# Altium schematic symbol library MCU_Microchip_SAMD.SchLib: 87 symbols (part 2 of 2)
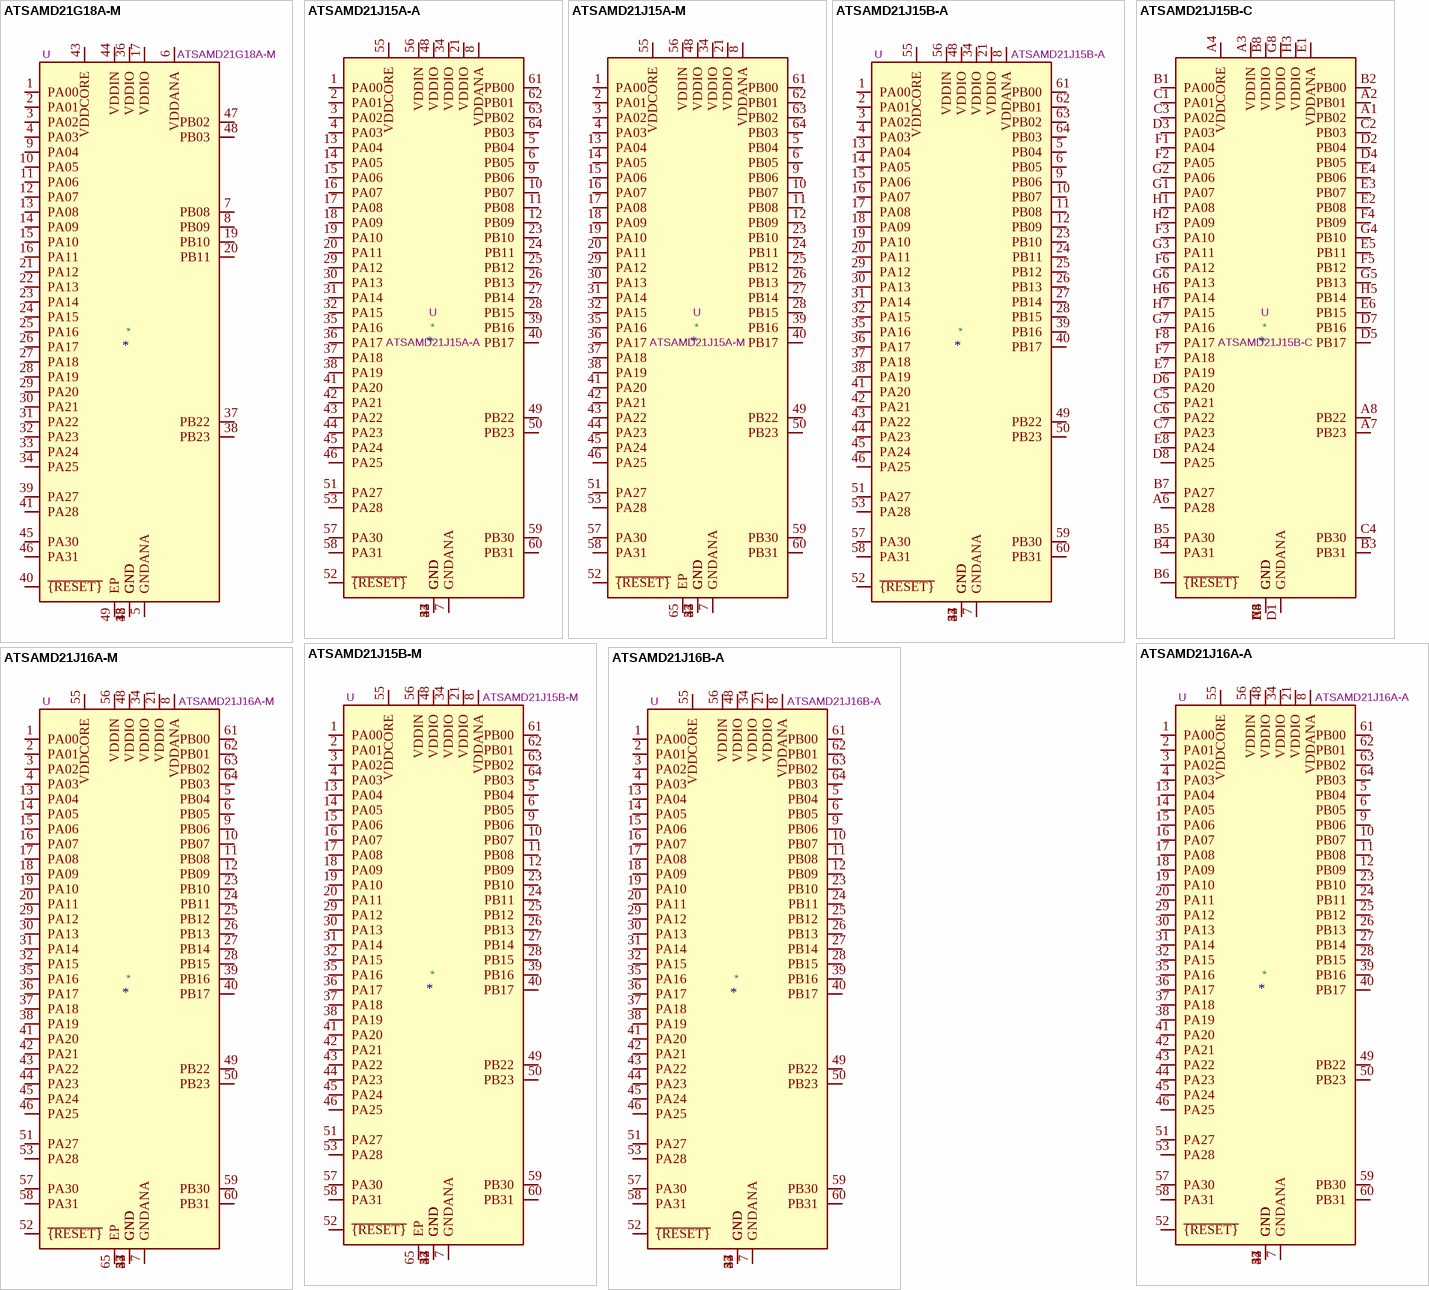
[diagram p8: symbols ATSAMD21G18A-M to ATSAMD21J16B-A]

## ATSAMD21J16A-M
designator *  value ATSAMD21J16A-M  Reference: U
SAM D21 Microchip SMART ARM-based Flash MCU, 48Mhz, 64K Flash, 8K SRAM, QFN-64; ki_keywords: 32-bit ARM Cortex-M0+ MCU Microcontroller; ki_fp_filters: QFN*9x9mm*P0.5mm*; Footprint: Package_DFN_QFN:QFN-64-1EP_9x9mm_P0.5mm_EP4.7x4.7mm; Datasheet: http://ww1.microchip.com/downloads/en/DeviceDoc/SAM_D21_DA1_Family_Data%20Sheet_DS40001882E.pdf; Description_: SAM D21 Microchip SMART ARM-based Flash MCU, 48Mhz, 64K Flash, 8K SRAM, QFN-64
pins: 1 PA00, 2 PA01, 3 PA02, 4 PA03, 5 PB04, 6 PB05, 7 GNDANA, 8 VDDANA, 9 PB06, 10 PB07, 11 PB08, 12 PB09, 13 PA04, 14 PA05, 15 PA06, 16 PA07, 17 PA08, 18 PA09, 19 PA10, 20 PA11, 21 VDDIO, 22 GND, 23 PB10, 24 PB11, 25 PB12, 26 PB13, 27 PB14, 28 PB15, 29 PA12, 30 PA13, 31 PA14, 32 PA15, 33 GND, 34 VDDIO, 35 PA16, 36 PA17, 37 PA18, 38 PA19, 39 PB16, 40 PB17, 41 PA20, 42 PA21, 43 PA22, 44 PA23, 45 PA24, 46 PA25, 47 GND, 48 VDDIO, 49 PB22, 50 PB23, 51 PA27, 52 ~{{RESET}}, 53 PA28, 54 GND, 55 VDDCORE, 56 VDDIN, 57 PA30, 58 PA31, 59 PB30, 60 PB31, 61 PB00, 62 PB01, 63 PB02, 64 PB03, 65 EP

## ATSAMD21J16B-A
designator *  value ATSAMD21J16B-A  Reference: U
SAM D21 Microchip SMART ARM-based Flash MCU, 48Mhz, 64K Flash w/ 2K RWW, 8K SRAM, TQFP-64; ki_keywords: 32-bit ARM Cortex-M0+ MCU Microcontroller; ki_fp_filters: TQFP*10x10mm*P0.5mm*; Footprint: Package_QFP:TQFP-64_10x10mm_P0.5mm; Datasheet: http://ww1.microchip.com/downloads/en/DeviceDoc/SAM_D21_DA1_Family_Data%20Sheet_DS40001882E.pdf; Description_: SAM D21 Microchip SMART ARM-based Flash MCU, 48Mhz, 64K Flash w/ 2K RWW, 8K SRAM, TQFP-64
pins: 1 PA00, 2 PA01, 3 PA02, 4 PA03, 5 PB04, 6 PB05, 7 GNDANA, 8 VDDANA, 9 PB06, 10 PB07, 11 PB08, 12 PB09, 13 PA04, 14 PA05, 15 PA06, 16 PA07, 17 PA08, 18 PA09, 19 PA10, 20 PA11, 21 VDDIO, 22 GND, 23 PB10, 24 PB11, 25 PB12, 26 PB13, 27 PB14, 28 PB15, 29 PA12, 30 PA13, 31 PA14, 32 PA15, 33 GND, 34 VDDIO, 35 PA16, 36 PA17, 37 PA18, 38 PA19, 39 PB16, 40 PB17, 41 PA20, 42 PA21, 43 PA22, 44 PA23, 45 PA24, 46 PA25, 47 GND, 48 VDDIO, 49 PB22, 50 PB23, 51 PA27, 52 ~{{RESET}}, 53 PA28, 54 GND, 55 VDDCORE, 56 VDDIN, 57 PA30, 58 PA31, 59 PB30, 60 PB31, 61 PB00, 62 PB01, 63 PB02, 64 PB03

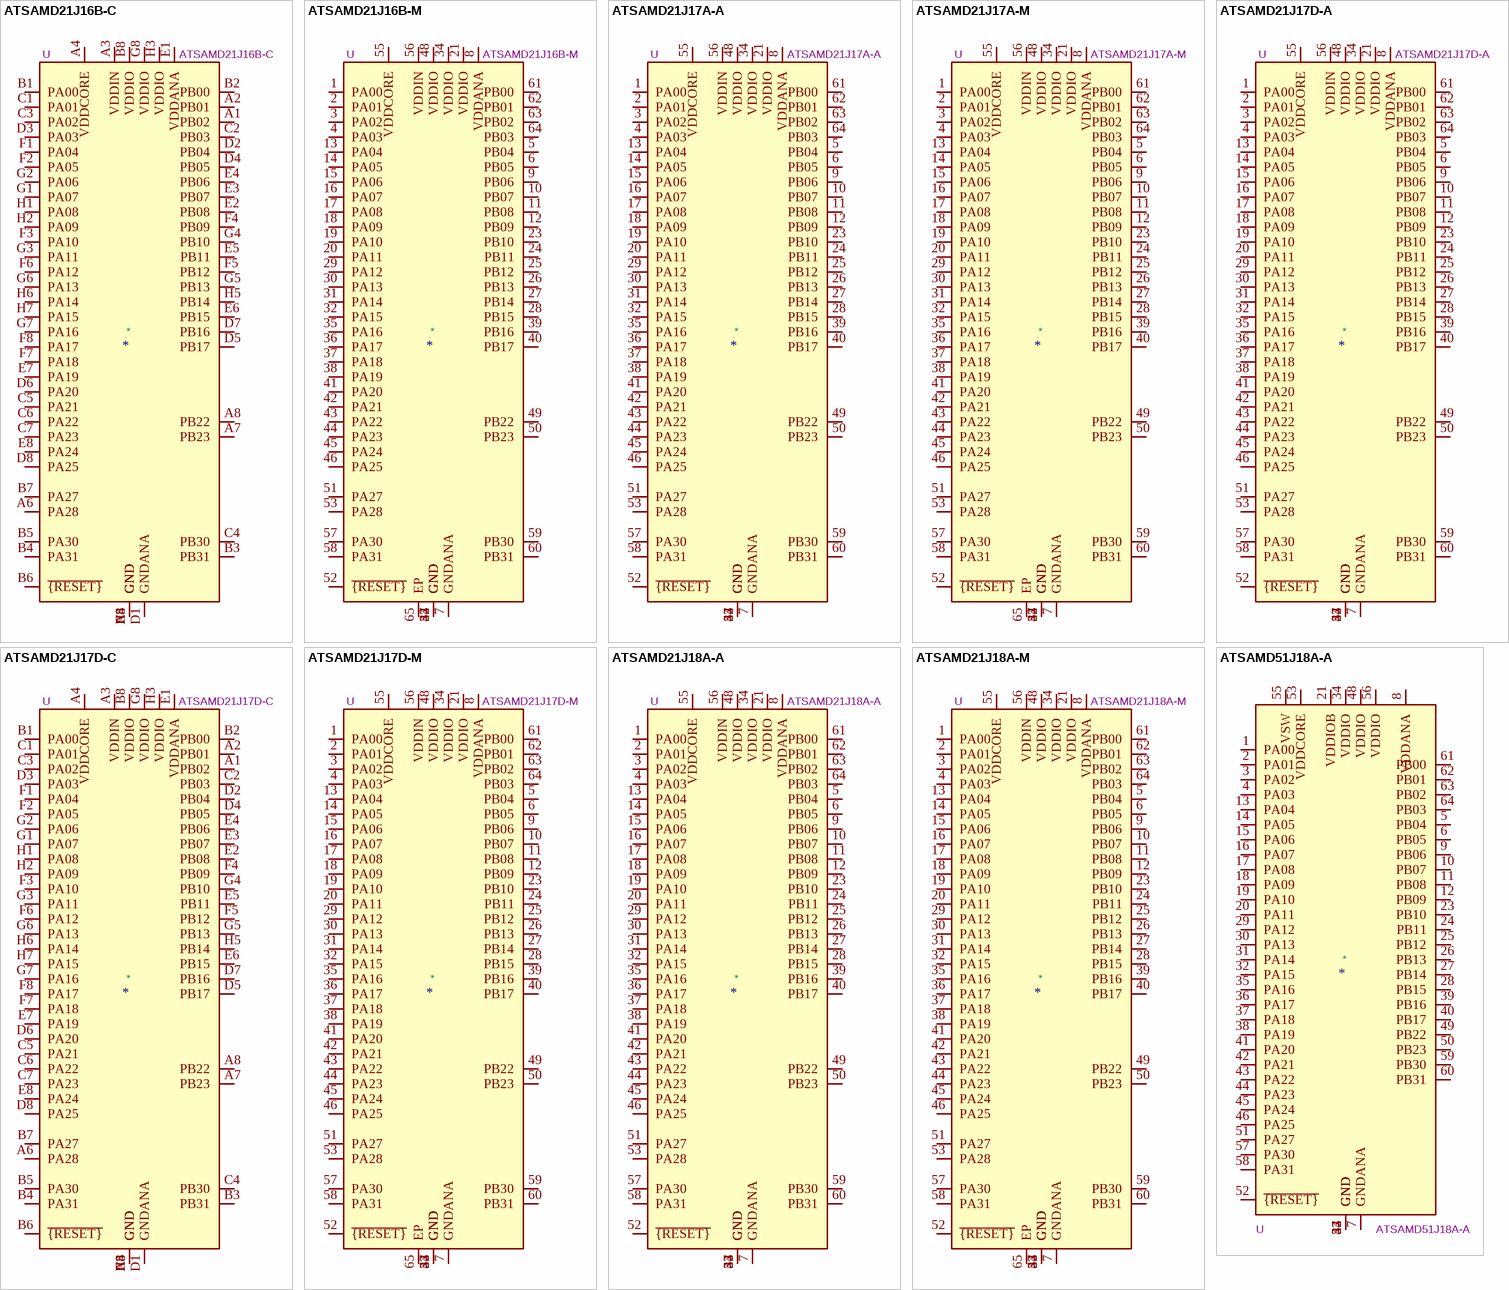
[diagram p5: symbols ATSAMD21J16B-C to ATSAMD51J18A-A]

## ATSAMD21J16B-C
designator *  value ATSAMD21J16B-C  Reference: U
SAM D21 Microchip SMART ARM-based Flash MCU, 48Mhz, 64K Flash w/ 2K RWW, 8K SRAM, UFBGA-64; ki_keywords: 32-bit ARM Cortex-M0+ MCU Microcontroller; ki_fp_filters: UFBGA*5x5mm*Layout8x8*P0.5mm*; Footprint: Package_BGA:UFBGA-64_5x5mm_Layout8x8_P0.5mm; Datasheet: http://ww1.microchip.com/downloads/en/DeviceDoc/SAM_D21_DA1_Family_Data%20Sheet_DS40001882E.pdf; Description_: SAM D21 Microchip SMART ARM-based Flash MCU, 48Mhz, 64K Flash w/ 2K RWW, 8K SRAM, UFBGA-64
pins: A1 PB02, A2 PB01, A3 VDDIN, A4 VDDCORE, A5 GND, A6 PA28, A7 PB23, A8 PB22, B1 PA00, B2 PB00, B3 PB31, B4 PA31, B5 PA30, B6 ~{{RESET}}, B7 PA27, B8 VDDIO, C1 PA01, C2 PB03, C3 PA02, C4 PB30, C5 PA21, C6 PA22, C7 PA23, C8 GND, D1 GNDANA, D2 PB04, D3 PA03, D4 PB05, D5 PB17, D6 PA20, D7 PB16, D8 PA25, E1 VDDANA, E2 PB08, E3 PB07, E4 PB06, E5 PB11, E6 PB15, E7 PA19, E8 PA24, F1 PA04, F2 PA05, F3 PA10, F4 PB09, F5 PB12, F6 PA12, F7 PA18, F8 PA17, G1 PA07, G2 PA06, G3 PA11, G4 PB10, G5 PB13, G6 PA13, G7 PA16, G8 VDDIO, H1 PA08, H2 PA09, H3 VDDIO, H4 GND, H5 PB14, H6 PA14, H7 PA15, H8 GND

## ATSAMD21J16B-M
designator *  value ATSAMD21J16B-M  Reference: U
SAM D21 Microchip SMART ARM-based Flash MCU, 48Mhz, 64K Flash w/ 2K RWW, 8K SRAM, QFN-64; ki_keywords: 32-bit ARM Cortex-M0+ MCU Microcontroller; ki_fp_filters: QFN*9x9mm*P0.5mm*; Footprint: Package_DFN_QFN:QFN-64-1EP_9x9mm_P0.5mm_EP4.7x4.7mm; Datasheet: http://ww1.microchip.com/downloads/en/DeviceDoc/SAM_D21_DA1_Family_Data%20Sheet_DS40001882E.pdf; Description_: SAM D21 Microchip SMART ARM-based Flash MCU, 48Mhz, 64K Flash w/ 2K RWW, 8K SRAM, QFN-64
pins: 1 PA00, 2 PA01, 3 PA02, 4 PA03, 5 PB04, 6 PB05, 7 GNDANA, 8 VDDANA, 9 PB06, 10 PB07, 11 PB08, 12 PB09, 13 PA04, 14 PA05, 15 PA06, 16 PA07, 17 PA08, 18 PA09, 19 PA10, 20 PA11, 21 VDDIO, 22 GND, 23 PB10, 24 PB11, 25 PB12, 26 PB13, 27 PB14, 28 PB15, 29 PA12, 30 PA13, 31 PA14, 32 PA15, 33 GND, 34 VDDIO, 35 PA16, 36 PA17, 37 PA18, 38 PA19, 39 PB16, 40 PB17, 41 PA20, 42 PA21, 43 PA22, 44 PA23, 45 PA24, 46 PA25, 47 GND, 48 VDDIO, 49 PB22, 50 PB23, 51 PA27, 52 ~{{RESET}}, 53 PA28, 54 GND, 55 VDDCORE, 56 VDDIN, 57 PA30, 58 PA31, 59 PB30, 60 PB31, 61 PB00, 62 PB01, 63 PB02, 64 PB03, 65 EP

## ATSAMD21J17A-A
designator *  value ATSAMD21J17A-A  Reference: U
SAM D21 Microchip SMART ARM-based Flash MCU, 48Mhz, 128K Flash, 16K SRAM, TQFP-64; ki_keywords: 32-bit ARM Cortex-M0+ MCU Microcontroller; ki_fp_filters: TQFP*10x10mm*P0.5mm*; Footprint: Package_QFP:TQFP-64_10x10mm_P0.5mm; Datasheet: http://ww1.microchip.com/downloads/en/DeviceDoc/SAM_D21_DA1_Family_Data%20Sheet_DS40001882E.pdf; Description_: SAM D21 Microchip SMART ARM-based Flash MCU, 48Mhz, 128K Flash, 16K SRAM, TQFP-64
pins: 1 PA00, 2 PA01, 3 PA02, 4 PA03, 5 PB04, 6 PB05, 7 GNDANA, 8 VDDANA, 9 PB06, 10 PB07, 11 PB08, 12 PB09, 13 PA04, 14 PA05, 15 PA06, 16 PA07, 17 PA08, 18 PA09, 19 PA10, 20 PA11, 21 VDDIO, 22 GND, 23 PB10, 24 PB11, 25 PB12, 26 PB13, 27 PB14, 28 PB15, 29 PA12, 30 PA13, 31 PA14, 32 PA15, 33 GND, 34 VDDIO, 35 PA16, 36 PA17, 37 PA18, 38 PA19, 39 PB16, 40 PB17, 41 PA20, 42 PA21, 43 PA22, 44 PA23, 45 PA24, 46 PA25, 47 GND, 48 VDDIO, 49 PB22, 50 PB23, 51 PA27, 52 ~{{RESET}}, 53 PA28, 54 GND, 55 VDDCORE, 56 VDDIN, 57 PA30, 58 PA31, 59 PB30, 60 PB31, 61 PB00, 62 PB01, 63 PB02, 64 PB03

## ATSAMD21J17A-M
designator *  value ATSAMD21J17A-M  Reference: U
SAM D21 Microchip SMART ARM-based Flash MCU, 48Mhz, 128K Flash, 16K SRAM, QFN-64; ki_keywords: 32-bit ARM Cortex-M0+ MCU Microcontroller; ki_fp_filters: QFN*9x9mm*P0.5mm*; Footprint: Package_DFN_QFN:QFN-64-1EP_9x9mm_P0.5mm_EP4.7x4.7mm; Datasheet: http://ww1.microchip.com/downloads/en/DeviceDoc/SAM_D21_DA1_Family_Data%20Sheet_DS40001882E.pdf; Description_: SAM D21 Microchip SMART ARM-based Flash MCU, 48Mhz, 128K Flash, 16K SRAM, QFN-64
pins: 1 PA00, 2 PA01, 3 PA02, 4 PA03, 5 PB04, 6 PB05, 7 GNDANA, 8 VDDANA, 9 PB06, 10 PB07, 11 PB08, 12 PB09, 13 PA04, 14 PA05, 15 PA06, 16 PA07, 17 PA08, 18 PA09, 19 PA10, 20 PA11, 21 VDDIO, 22 GND, 23 PB10, 24 PB11, 25 PB12, 26 PB13, 27 PB14, 28 PB15, 29 PA12, 30 PA13, 31 PA14, 32 PA15, 33 GND, 34 VDDIO, 35 PA16, 36 PA17, 37 PA18, 38 PA19, 39 PB16, 40 PB17, 41 PA20, 42 PA21, 43 PA22, 44 PA23, 45 PA24, 46 PA25, 47 GND, 48 VDDIO, 49 PB22, 50 PB23, 51 PA27, 52 ~{{RESET}}, 53 PA28, 54 GND, 55 VDDCORE, 56 VDDIN, 57 PA30, 58 PA31, 59 PB30, 60 PB31, 61 PB00, 62 PB01, 63 PB02, 64 PB03, 65 EP

## ATSAMD21J17D-A
designator *  value ATSAMD21J17D-A  Reference: U
SAM D21 Microchip SMART ARM-based Flash MCU, 48Mhz, 128K Flash w/ 4K RWW, 16K SRAM, TQFP-64; ki_keywords: 32-bit ARM Cortex-M0+ MCU Microcontroller; ki_fp_filters: TQFP*10x10mm*P0.5mm*; Footprint: Package_QFP:TQFP-64_10x10mm_P0.5mm; Datasheet: http://ww1.microchip.com/downloads/en/DeviceDoc/SAM_D21_DA1_Family_Data%20Sheet_DS40001882E.pdf; Description_: SAM D21 Microchip SMART ARM-based Flash MCU, 48Mhz, 128K Flash w/ 4K RWW, 16K SRAM, TQFP-64
pins: 1 PA00, 2 PA01, 3 PA02, 4 PA03, 5 PB04, 6 PB05, 7 GNDANA, 8 VDDANA, 9 PB06, 10 PB07, 11 PB08, 12 PB09, 13 PA04, 14 PA05, 15 PA06, 16 PA07, 17 PA08, 18 PA09, 19 PA10, 20 PA11, 21 VDDIO, 22 GND, 23 PB10, 24 PB11, 25 PB12, 26 PB13, 27 PB14, 28 PB15, 29 PA12, 30 PA13, 31 PA14, 32 PA15, 33 GND, 34 VDDIO, 35 PA16, 36 PA17, 37 PA18, 38 PA19, 39 PB16, 40 PB17, 41 PA20, 42 PA21, 43 PA22, 44 PA23, 45 PA24, 46 PA25, 47 GND, 48 VDDIO, 49 PB22, 50 PB23, 51 PA27, 52 ~{{RESET}}, 53 PA28, 54 GND, 55 VDDCORE, 56 VDDIN, 57 PA30, 58 PA31, 59 PB30, 60 PB31, 61 PB00, 62 PB01, 63 PB02, 64 PB03

## ATSAMD21J17D-C
designator *  value ATSAMD21J17D-C  Reference: U
SAM D21 Microchip SMART ARM-based Flash MCU, 48Mhz, 128K Flash w/ 4K RWW, 16K SRAM, UFBGA-64; ki_keywords: 32-bit ARM Cortex-M0+ MCU Microcontroller; ki_fp_filters: UFBGA*5x5mm*Layout8x8*P0.5mm*; Footprint: Package_BGA:UFBGA-64_5x5mm_Layout8x8_P0.5mm; Datasheet: http://ww1.microchip.com/downloads/en/DeviceDoc/SAM_D21_DA1_Family_Data%20Sheet_DS40001882E.pdf; Description_: SAM D21 Microchip SMART ARM-based Flash MCU, 48Mhz, 128K Flash w/ 4K RWW, 16K SRAM, UFBGA-64
pins: A1 PB02, A2 PB01, A3 VDDIN, A4 VDDCORE, A5 GND, A6 PA28, A7 PB23, A8 PB22, B1 PA00, B2 PB00, B3 PB31, B4 PA31, B5 PA30, B6 ~{{RESET}}, B7 PA27, B8 VDDIO, C1 PA01, C2 PB03, C3 PA02, C4 PB30, C5 PA21, C6 PA22, C7 PA23, C8 GND, D1 GNDANA, D2 PB04, D3 PA03, D4 PB05, D5 PB17, D6 PA20, D7 PB16, D8 PA25, E1 VDDANA, E2 PB08, E3 PB07, E4 PB06, E5 PB11, E6 PB15, E7 PA19, E8 PA24, F1 PA04, F2 PA05, F3 PA10, F4 PB09, F5 PB12, F6 PA12, F7 PA18, F8 PA17, G1 PA07, G2 PA06, G3 PA11, G4 PB10, G5 PB13, G6 PA13, G7 PA16, G8 VDDIO, H1 PA08, H2 PA09, H3 VDDIO, H4 GND, H5 PB14, H6 PA14, H7 PA15, H8 GND

## ATSAMD21J17D-M
designator *  value ATSAMD21J17D-M  Reference: U
SAM D21 Microchip SMART ARM-based Flash MCU, 48Mhz, 128K Flash w/ 4K RWW, 16K SRAM, QFN-64; ki_keywords: 32-bit ARM Cortex-M0+ MCU Microcontroller; ki_fp_filters: QFN*9x9mm*P0.5mm*; Footprint: Package_DFN_QFN:QFN-64-1EP_9x9mm_P0.5mm_EP4.7x4.7mm; Datasheet: http://ww1.microchip.com/downloads/en/DeviceDoc/SAM_D21_DA1_Family_Data%20Sheet_DS40001882E.pdf; Description_: SAM D21 Microchip SMART ARM-based Flash MCU, 48Mhz, 128K Flash w/ 4K RWW, 16K SRAM, QFN-64
pins: 1 PA00, 2 PA01, 3 PA02, 4 PA03, 5 PB04, 6 PB05, 7 GNDANA, 8 VDDANA, 9 PB06, 10 PB07, 11 PB08, 12 PB09, 13 PA04, 14 PA05, 15 PA06, 16 PA07, 17 PA08, 18 PA09, 19 PA10, 20 PA11, 21 VDDIO, 22 GND, 23 PB10, 24 PB11, 25 PB12, 26 PB13, 27 PB14, 28 PB15, 29 PA12, 30 PA13, 31 PA14, 32 PA15, 33 GND, 34 VDDIO, 35 PA16, 36 PA17, 37 PA18, 38 PA19, 39 PB16, 40 PB17, 41 PA20, 42 PA21, 43 PA22, 44 PA23, 45 PA24, 46 PA25, 47 GND, 48 VDDIO, 49 PB22, 50 PB23, 51 PA27, 52 ~{{RESET}}, 53 PA28, 54 GND, 55 VDDCORE, 56 VDDIN, 57 PA30, 58 PA31, 59 PB30, 60 PB31, 61 PB00, 62 PB01, 63 PB02, 64 PB03, 65 EP

## ATSAMD21J18A-A
designator *  value ATSAMD21J18A-A  Reference: U
SAM D21 Microchip SMART ARM-based Flash MCU, 48Mhz, 256K Flash, 32K SRAM, TQFP-64; ki_keywords: 32-bit ARM Cortex-M0+ MCU Microcontroller; ki_fp_filters: TQFP*10x10mm*P0.5mm*; Footprint: Package_QFP:TQFP-64_10x10mm_P0.5mm; Datasheet: http://ww1.microchip.com/downloads/en/DeviceDoc/SAM_D21_DA1_Family_Data%20Sheet_DS40001882E.pdf; Description_: SAM D21 Microchip SMART ARM-based Flash MCU, 48Mhz, 256K Flash, 32K SRAM, TQFP-64
pins: 1 PA00, 2 PA01, 3 PA02, 4 PA03, 5 PB04, 6 PB05, 7 GNDANA, 8 VDDANA, 9 PB06, 10 PB07, 11 PB08, 12 PB09, 13 PA04, 14 PA05, 15 PA06, 16 PA07, 17 PA08, 18 PA09, 19 PA10, 20 PA11, 21 VDDIO, 22 GND, 23 PB10, 24 PB11, 25 PB12, 26 PB13, 27 PB14, 28 PB15, 29 PA12, 30 PA13, 31 PA14, 32 PA15, 33 GND, 34 VDDIO, 35 PA16, 36 PA17, 37 PA18, 38 PA19, 39 PB16, 40 PB17, 41 PA20, 42 PA21, 43 PA22, 44 PA23, 45 PA24, 46 PA25, 47 GND, 48 VDDIO, 49 PB22, 50 PB23, 51 PA27, 52 ~{{RESET}}, 53 PA28, 54 GND, 55 VDDCORE, 56 VDDIN, 57 PA30, 58 PA31, 59 PB30, 60 PB31, 61 PB00, 62 PB01, 63 PB02, 64 PB03

## ATSAMD21J18A-M
designator *  value ATSAMD21J18A-M  Reference: U
SAM D21 Microchip SMART ARM-based Flash MCU, 48Mhz, 256K Flash, 32K SRAM, QFN-64; ki_keywords: 32-bit ARM Cortex-M0+ MCU Microcontroller; ki_fp_filters: QFN*9x9mm*P0.5mm*; Footprint: Package_DFN_QFN:QFN-64-1EP_9x9mm_P0.5mm_EP4.7x4.7mm; Datasheet: http://ww1.microchip.com/downloads/en/DeviceDoc/SAM_D21_DA1_Family_Data%20Sheet_DS40001882E.pdf; Description_: SAM D21 Microchip SMART ARM-based Flash MCU, 48Mhz, 256K Flash, 32K SRAM, QFN-64
pins: 1 PA00, 2 PA01, 3 PA02, 4 PA03, 5 PB04, 6 PB05, 7 GNDANA, 8 VDDANA, 9 PB06, 10 PB07, 11 PB08, 12 PB09, 13 PA04, 14 PA05, 15 PA06, 16 PA07, 17 PA08, 18 PA09, 19 PA10, 20 PA11, 21 VDDIO, 22 GND, 23 PB10, 24 PB11, 25 PB12, 26 PB13, 27 PB14, 28 PB15, 29 PA12, 30 PA13, 31 PA14, 32 PA15, 33 GND, 34 VDDIO, 35 PA16, 36 PA17, 37 PA18, 38 PA19, 39 PB16, 40 PB17, 41 PA20, 42 PA21, 43 PA22, 44 PA23, 45 PA24, 46 PA25, 47 GND, 48 VDDIO, 49 PB22, 50 PB23, 51 PA27, 52 ~{{RESET}}, 53 PA28, 54 GND, 55 VDDCORE, 56 VDDIN, 57 PA30, 58 PA31, 59 PB30, 60 PB31, 61 PB00, 62 PB01, 63 PB02, 64 PB03, 65 EP

## ATSAMD51J18A-A
designator *  value ATSAMD51J18A-A  Reference: U
SAM D51 Microchip SMART ARM Cortex-M4F-based MCU, 256K Flash, 128K SRAM, TQFP-64; ki_keywords: 32-bit ARM Cortex-M4F MCU Microcontroller; ki_fp_filters: TQFP*10x10mm*P0.5mm*; Footprint: Package_QFP:TQFP-64_10x10mm_P0.5mm; Datasheet: http://ww1.microchip.com/downloads/en/DeviceDoc/60001507E.pdf; Description_: SAM D51 Microchip SMART ARM Cortex-M4F-based MCU, 256K Flash, 128K SRAM, TQFP-64
pins: 1 PA00, 2 PA01, 3 PA02, 4 PA03, 5 PB04, 6 PB05, 7 GNDANA, 8 VDDANA, 9 PB06, 10 PB07, 11 PB08, 12 PB09, 13 PA04, 14 PA05, 15 PA06, 16 PA07, 17 PA08, 18 PA09, 19 PA10, 20 PA11, 21 VDDIOB, 22 GND, 23 PB10, 24 PB11, 25 PB12, 26 PB13, 27 PB14, 28 PB15, 29 PA12, 30 PA13, 31 PA14, 32 PA15, 33 GND, 34 VDDIO, 35 PA16, 36 PA17, 37 PA18, 38 PA19, 39 PB16, 40 PB17, 41 PA20, 42 PA21, 43 PA22, 44 PA23, 45 PA24, 46 PA25, 47 GND, 48 VDDIO, 49 PB22, 50 PB23, 51 PA27, 52 ~{{RESET}}, 53 VDDCORE, 54 GND, 55 VSW, 56 VDDIO, 57 PA30, 58 PA31, 59 PB30, 60 PB31, 61 PB00, 62 PB01, 63 PB02, 64 PB03

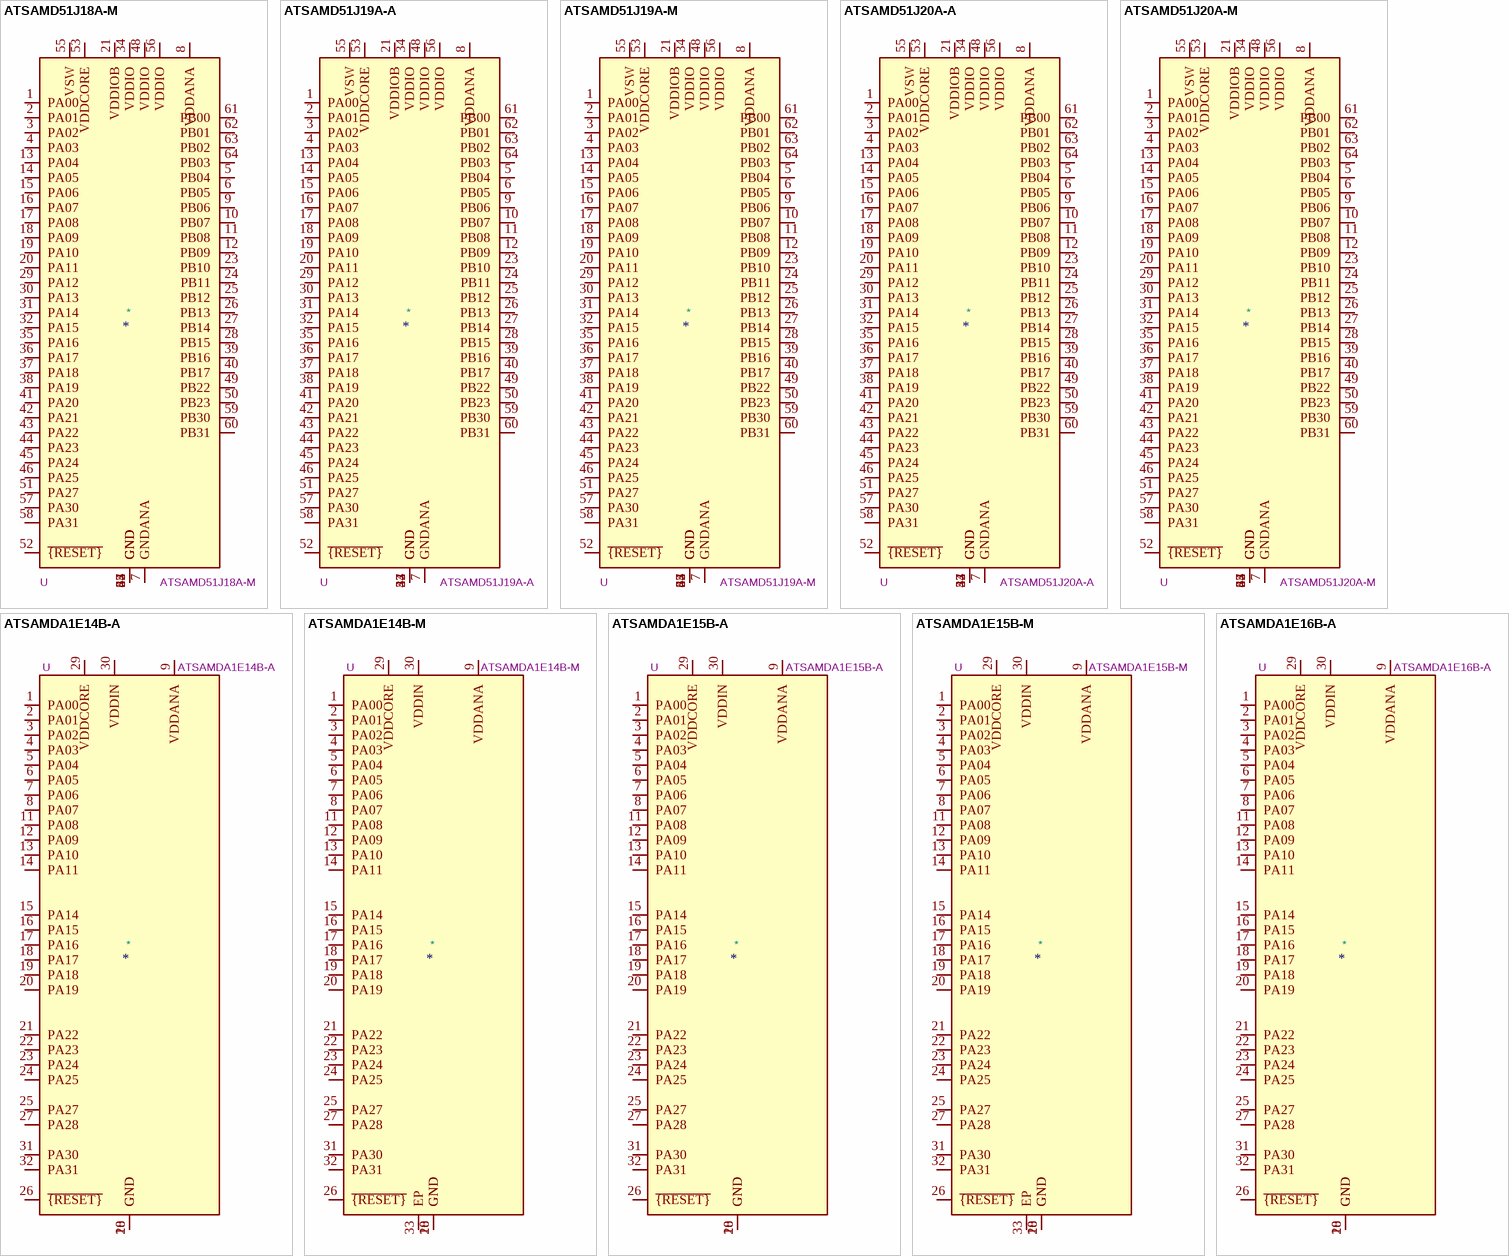
[diagram p6: symbols ATSAMD51J18A-M to ATSAMDA1E16B-A]

## ATSAMD51J18A-M
designator *  value ATSAMD51J18A-M  Reference: U
SAM D51 Microchip SMART ARM Cortex-M4F-based MCU, 256K Flash, 128K SRAM, VQFN-64; ki_keywords: 32-bit ARM Cortex-M4F MCU Microcontroller; ki_fp_filters: QFN*1EP*9x9mm*P0.5mm*; Footprint: Package_DFN_QFN:QFN-64-1EP_9x9mm_P0.5mm_EP4.7x4.7mm; Datasheet: http://ww1.microchip.com/downloads/en/DeviceDoc/60001507E.pdf; Description_: SAM D51 Microchip SMART ARM Cortex-M4F-based MCU, 256K Flash, 128K SRAM, VQFN-64
pins: 1 PA00, 2 PA01, 3 PA02, 4 PA03, 5 PB04, 6 PB05, 7 GNDANA, 8 VDDANA, 9 PB06, 10 PB07, 11 PB08, 12 PB09, 13 PA04, 14 PA05, 15 PA06, 16 PA07, 17 PA08, 18 PA09, 19 PA10, 20 PA11, 21 VDDIOB, 22 GND, 23 PB10, 24 PB11, 25 PB12, 26 PB13, 27 PB14, 28 PB15, 29 PA12, 30 PA13, 31 PA14, 32 PA15, 33 GND, 34 VDDIO, 35 PA16, 36 PA17, 37 PA18, 38 PA19, 39 PB16, 40 PB17, 41 PA20, 42 PA21, 43 PA22, 44 PA23, 45 PA24, 46 PA25, 47 GND, 48 VDDIO, 49 PB22, 50 PB23, 51 PA27, 52 ~{{RESET}}, 53 VDDCORE, 54 GND, 55 VSW, 56 VDDIO, 57 PA30, 58 PA31, 59 PB30, 60 PB31, 61 PB00, 62 PB01, 63 PB02, 64 PB03, 65 GND

## ATSAMD51J19A-A
designator *  value ATSAMD51J19A-A  Reference: U
SAM D51 Microchip SMART ARM Cortex-M4F-based MCU, 512K Flash, 192K SRAM, TQFP-64; ki_keywords: 32-bit ARM Cortex-M4F MCU Microcontroller; ki_fp_filters: TQFP*10x10mm*P0.5mm*; Footprint: Package_QFP:TQFP-64_10x10mm_P0.5mm; Datasheet: http://ww1.microchip.com/downloads/en/DeviceDoc/60001507E.pdf; Description_: SAM D51 Microchip SMART ARM Cortex-M4F-based MCU, 512K Flash, 192K SRAM, TQFP-64
pins: 1 PA00, 2 PA01, 3 PA02, 4 PA03, 5 PB04, 6 PB05, 7 GNDANA, 8 VDDANA, 9 PB06, 10 PB07, 11 PB08, 12 PB09, 13 PA04, 14 PA05, 15 PA06, 16 PA07, 17 PA08, 18 PA09, 19 PA10, 20 PA11, 21 VDDIOB, 22 GND, 23 PB10, 24 PB11, 25 PB12, 26 PB13, 27 PB14, 28 PB15, 29 PA12, 30 PA13, 31 PA14, 32 PA15, 33 GND, 34 VDDIO, 35 PA16, 36 PA17, 37 PA18, 38 PA19, 39 PB16, 40 PB17, 41 PA20, 42 PA21, 43 PA22, 44 PA23, 45 PA24, 46 PA25, 47 GND, 48 VDDIO, 49 PB22, 50 PB23, 51 PA27, 52 ~{{RESET}}, 53 VDDCORE, 54 GND, 55 VSW, 56 VDDIO, 57 PA30, 58 PA31, 59 PB30, 60 PB31, 61 PB00, 62 PB01, 63 PB02, 64 PB03

## ATSAMD51J19A-M
designator *  value ATSAMD51J19A-M  Reference: U
SAM D51 Microchip SMART ARM Cortex-M4F-based MCU, 512K Flash, 192K SRAM, VQFN-64; ki_keywords: 32-bit ARM Cortex-M4F MCU Microcontroller; ki_fp_filters: QFN*1EP*9x9mm*P0.5mm*; Footprint: Package_DFN_QFN:QFN-64-1EP_9x9mm_P0.5mm_EP4.7x4.7mm; Datasheet: http://ww1.microchip.com/downloads/en/DeviceDoc/60001507E.pdf; Description_: SAM D51 Microchip SMART ARM Cortex-M4F-based MCU, 512K Flash, 192K SRAM, VQFN-64
pins: 1 PA00, 2 PA01, 3 PA02, 4 PA03, 5 PB04, 6 PB05, 7 GNDANA, 8 VDDANA, 9 PB06, 10 PB07, 11 PB08, 12 PB09, 13 PA04, 14 PA05, 15 PA06, 16 PA07, 17 PA08, 18 PA09, 19 PA10, 20 PA11, 21 VDDIOB, 22 GND, 23 PB10, 24 PB11, 25 PB12, 26 PB13, 27 PB14, 28 PB15, 29 PA12, 30 PA13, 31 PA14, 32 PA15, 33 GND, 34 VDDIO, 35 PA16, 36 PA17, 37 PA18, 38 PA19, 39 PB16, 40 PB17, 41 PA20, 42 PA21, 43 PA22, 44 PA23, 45 PA24, 46 PA25, 47 GND, 48 VDDIO, 49 PB22, 50 PB23, 51 PA27, 52 ~{{RESET}}, 53 VDDCORE, 54 GND, 55 VSW, 56 VDDIO, 57 PA30, 58 PA31, 59 PB30, 60 PB31, 61 PB00, 62 PB01, 63 PB02, 64 PB03, 65 GND

## ATSAMD51J20A-A
designator *  value ATSAMD51J20A-A  Reference: U
SAM D51 Microchip SMART ARM Cortex-M4F-based MCU, 1024K Flash, 256K SRAM, TQFP-64; ki_keywords: 32-bit ARM Cortex-M4F MCU Microcontroller; ki_fp_filters: TQFP*10x10mm*P0.5mm*; Footprint: Package_QFP:TQFP-64_10x10mm_P0.5mm; Datasheet: http://ww1.microchip.com/downloads/en/DeviceDoc/60001507E.pdf; Description_: SAM D51 Microchip SMART ARM Cortex-M4F-based MCU, 1024K Flash, 256K SRAM, TQFP-64
pins: 1 PA00, 2 PA01, 3 PA02, 4 PA03, 5 PB04, 6 PB05, 7 GNDANA, 8 VDDANA, 9 PB06, 10 PB07, 11 PB08, 12 PB09, 13 PA04, 14 PA05, 15 PA06, 16 PA07, 17 PA08, 18 PA09, 19 PA10, 20 PA11, 21 VDDIOB, 22 GND, 23 PB10, 24 PB11, 25 PB12, 26 PB13, 27 PB14, 28 PB15, 29 PA12, 30 PA13, 31 PA14, 32 PA15, 33 GND, 34 VDDIO, 35 PA16, 36 PA17, 37 PA18, 38 PA19, 39 PB16, 40 PB17, 41 PA20, 42 PA21, 43 PA22, 44 PA23, 45 PA24, 46 PA25, 47 GND, 48 VDDIO, 49 PB22, 50 PB23, 51 PA27, 52 ~{{RESET}}, 53 VDDCORE, 54 GND, 55 VSW, 56 VDDIO, 57 PA30, 58 PA31, 59 PB30, 60 PB31, 61 PB00, 62 PB01, 63 PB02, 64 PB03

## ATSAMD51J20A-M
designator *  value ATSAMD51J20A-M  Reference: U
SAM D51 Microchip SMART ARM Cortex-M4F-based MCU, 1024K Flash, 256K SRAM, VQFN-64; ki_keywords: 32-bit ARM Cortex-M4F MCU Microcontroller; ki_fp_filters: QFN*1EP*9x9mm*P0.5mm*; Footprint: Package_DFN_QFN:QFN-64-1EP_9x9mm_P0.5mm_EP4.7x4.7mm; Datasheet: http://ww1.microchip.com/downloads/en/DeviceDoc/60001507E.pdf; Description_: SAM D51 Microchip SMART ARM Cortex-M4F-based MCU, 1024K Flash, 256K SRAM, VQFN-64
pins: 1 PA00, 2 PA01, 3 PA02, 4 PA03, 5 PB04, 6 PB05, 7 GNDANA, 8 VDDANA, 9 PB06, 10 PB07, 11 PB08, 12 PB09, 13 PA04, 14 PA05, 15 PA06, 16 PA07, 17 PA08, 18 PA09, 19 PA10, 20 PA11, 21 VDDIOB, 22 GND, 23 PB10, 24 PB11, 25 PB12, 26 PB13, 27 PB14, 28 PB15, 29 PA12, 30 PA13, 31 PA14, 32 PA15, 33 GND, 34 VDDIO, 35 PA16, 36 PA17, 37 PA18, 38 PA19, 39 PB16, 40 PB17, 41 PA20, 42 PA21, 43 PA22, 44 PA23, 45 PA24, 46 PA25, 47 GND, 48 VDDIO, 49 PB22, 50 PB23, 51 PA27, 52 ~{{RESET}}, 53 VDDCORE, 54 GND, 55 VSW, 56 VDDIO, 57 PA30, 58 PA31, 59 PB30, 60 PB31, 61 PB00, 62 PB01, 63 PB02, 64 PB03, 65 GND

## ATSAMDA1E14B-A
designator *  value ATSAMDA1E14B-A  Reference: U
SAM DA1 Microchip SMART ARM-based Flash MCU, 48Mhz, 16K Flash w/ 0.5K RWW, 4K SRAM, TQFP-32; ki_keywords: 32-bit ARM Cortex-M0+ MCU Microcontroller; ki_fp_filters: TQFP*7x7mm*P0.8mm*; Footprint: Package_QFP:TQFP-32_7x7mm_P0.8mm; Datasheet: http://ww1.microchip.com/downloads/en/DeviceDoc/SAM_D21_DA1_Family_Data%20Sheet_DS40001882E.pdf; Description_: SAM DA1 Microchip SMART ARM-based Flash MCU, 48Mhz, 16K Flash w/ 0.5K RWW, 4K SRAM, TQFP-32
pins: 1 PA00, 2 PA01, 3 PA02, 4 PA03, 5 PA04, 6 PA05, 7 PA06, 8 PA07, 9 VDDANA, 10 GND, 11 PA08, 12 PA09, 13 PA10, 14 PA11, 15 PA14, 16 PA15, 17 PA16, 18 PA17, 19 PA18, 20 PA19, 21 PA22, 22 PA23, 23 PA24, 24 PA25, 25 PA27, 26 ~{{RESET}}, 27 PA28, 28 GND, 29 VDDCORE, 30 VDDIN, 31 PA30, 32 PA31

## ATSAMDA1E14B-M
designator *  value ATSAMDA1E14B-M  Reference: U
SAM DA1 Microchip SMART ARM-based Flash MCU, 48Mhz, 16K Flash w/ 0.5K RWW, 4K SRAM, QFN-32; ki_keywords: 32-bit ARM Cortex-M0+ MCU Microcontroller; ki_fp_filters: QFN*5x5mm*P0.5mm*; Footprint: Package_DFN_QFN:QFN-32-1EP_5x5mm_P0.5mm_EP3.6x3.6mm; Datasheet: http://ww1.microchip.com/downloads/en/DeviceDoc/SAM_D21_DA1_Family_Data%20Sheet_DS40001882E.pdf; Description_: SAM DA1 Microchip SMART ARM-based Flash MCU, 48Mhz, 16K Flash w/ 0.5K RWW, 4K SRAM, QFN-32
pins: 1 PA00, 2 PA01, 3 PA02, 4 PA03, 5 PA04, 6 PA05, 7 PA06, 8 PA07, 9 VDDANA, 10 GND, 11 PA08, 12 PA09, 13 PA10, 14 PA11, 15 PA14, 16 PA15, 17 PA16, 18 PA17, 19 PA18, 20 PA19, 21 PA22, 22 PA23, 23 PA24, 24 PA25, 25 PA27, 26 ~{{RESET}}, 27 PA28, 28 GND, 29 VDDCORE, 30 VDDIN, 31 PA30, 32 PA31, 33 EP

## ATSAMDA1E15B-A
designator *  value ATSAMDA1E15B-A  Reference: U
SAM DA1 Microchip SMART ARM-based Flash MCU, 48Mhz, 32K Flash w/ 1K RWW, 4K SRAM, TQFP-32; ki_keywords: 32-bit ARM Cortex-M0+ MCU Microcontroller; ki_fp_filters: TQFP*7x7mm*P0.8mm*; Footprint: Package_QFP:TQFP-32_7x7mm_P0.8mm; Datasheet: http://ww1.microchip.com/downloads/en/DeviceDoc/SAM_D21_DA1_Family_Data%20Sheet_DS40001882E.pdf; Description_: SAM DA1 Microchip SMART ARM-based Flash MCU, 48Mhz, 32K Flash w/ 1K RWW, 4K SRAM, TQFP-32
pins: 1 PA00, 2 PA01, 3 PA02, 4 PA03, 5 PA04, 6 PA05, 7 PA06, 8 PA07, 9 VDDANA, 10 GND, 11 PA08, 12 PA09, 13 PA10, 14 PA11, 15 PA14, 16 PA15, 17 PA16, 18 PA17, 19 PA18, 20 PA19, 21 PA22, 22 PA23, 23 PA24, 24 PA25, 25 PA27, 26 ~{{RESET}}, 27 PA28, 28 GND, 29 VDDCORE, 30 VDDIN, 31 PA30, 32 PA31

## ATSAMDA1E15B-M
designator *  value ATSAMDA1E15B-M  Reference: U
SAM DA1 Microchip SMART ARM-based Flash MCU, 48Mhz, 32K Flash w/ 1K RWW, 4K SRAM, QFN-32; ki_keywords: 32-bit ARM Cortex-M0+ MCU Microcontroller; ki_fp_filters: QFN*5x5mm*P0.5mm*; Footprint: Package_DFN_QFN:QFN-32-1EP_5x5mm_P0.5mm_EP3.6x3.6mm; Datasheet: http://ww1.microchip.com/downloads/en/DeviceDoc/SAM_D21_DA1_Family_Data%20Sheet_DS40001882E.pdf; Description_: SAM DA1 Microchip SMART ARM-based Flash MCU, 48Mhz, 32K Flash w/ 1K RWW, 4K SRAM, QFN-32
pins: 1 PA00, 2 PA01, 3 PA02, 4 PA03, 5 PA04, 6 PA05, 7 PA06, 8 PA07, 9 VDDANA, 10 GND, 11 PA08, 12 PA09, 13 PA10, 14 PA11, 15 PA14, 16 PA15, 17 PA16, 18 PA17, 19 PA18, 20 PA19, 21 PA22, 22 PA23, 23 PA24, 24 PA25, 25 PA27, 26 ~{{RESET}}, 27 PA28, 28 GND, 29 VDDCORE, 30 VDDIN, 31 PA30, 32 PA31, 33 EP

## ATSAMDA1E16B-A
designator *  value ATSAMDA1E16B-A  Reference: U
SAM DA1 Microchip SMART ARM-based Flash MCU, 48Mhz, 64K Flash w/ 2K RWW, 8K SRAM, TQFP-32; ki_keywords: 32-bit ARM Cortex-M0+ MCU Microcontroller; ki_fp_filters: TQFP*7x7mm*P0.8mm*; Footprint: Package_QFP:TQFP-32_7x7mm_P0.8mm; Datasheet: http://ww1.microchip.com/downloads/en/DeviceDoc/SAM_D21_DA1_Family_Data%20Sheet_DS40001882E.pdf; Description_: SAM DA1 Microchip SMART ARM-based Flash MCU, 48Mhz, 64K Flash w/ 2K RWW, 8K SRAM, TQFP-32
pins: 1 PA00, 2 PA01, 3 PA02, 4 PA03, 5 PA04, 6 PA05, 7 PA06, 8 PA07, 9 VDDANA, 10 GND, 11 PA08, 12 PA09, 13 PA10, 14 PA11, 15 PA14, 16 PA15, 17 PA16, 18 PA17, 19 PA18, 20 PA19, 21 PA22, 22 PA23, 23 PA24, 24 PA25, 25 PA27, 26 ~{{RESET}}, 27 PA28, 28 GND, 29 VDDCORE, 30 VDDIN, 31 PA30, 32 PA31

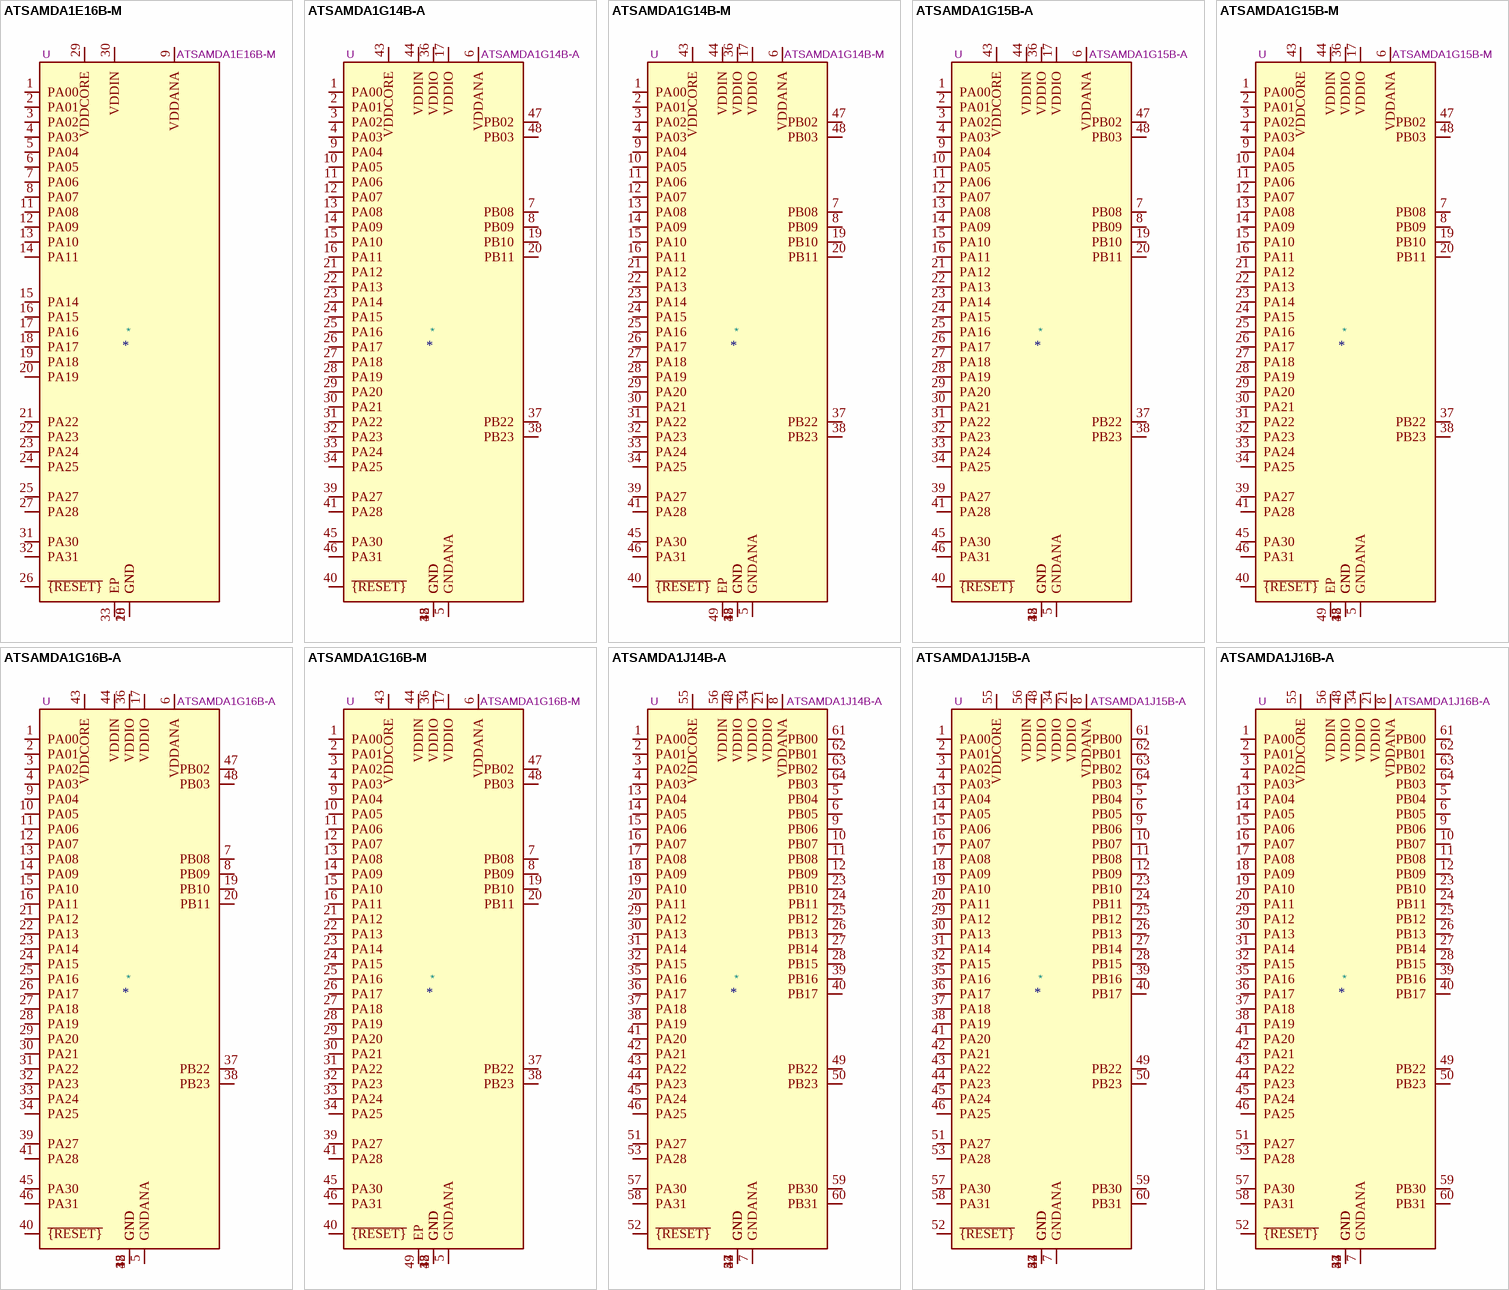
[diagram p7: symbols ATSAMDA1E16B-M to ATSAMDA1J16B-A]

## ATSAMDA1E16B-M
designator *  value ATSAMDA1E16B-M  Reference: U
SAM DA1 Microchip SMART ARM-based Flash MCU, 48Mhz, 64K Flash w/ 2K RWW, 8K SRAM, QFN-32; ki_keywords: 32-bit ARM Cortex-M0+ MCU Microcontroller; ki_fp_filters: QFN*5x5mm*P0.5mm*; Footprint: Package_DFN_QFN:QFN-32-1EP_5x5mm_P0.5mm_EP3.6x3.6mm; Datasheet: http://ww1.microchip.com/downloads/en/DeviceDoc/SAM_D21_DA1_Family_Data%20Sheet_DS40001882E.pdf; Description_: SAM DA1 Microchip SMART ARM-based Flash MCU, 48Mhz, 64K Flash w/ 2K RWW, 8K SRAM, QFN-32
pins: 1 PA00, 2 PA01, 3 PA02, 4 PA03, 5 PA04, 6 PA05, 7 PA06, 8 PA07, 9 VDDANA, 10 GND, 11 PA08, 12 PA09, 13 PA10, 14 PA11, 15 PA14, 16 PA15, 17 PA16, 18 PA17, 19 PA18, 20 PA19, 21 PA22, 22 PA23, 23 PA24, 24 PA25, 25 PA27, 26 ~{{RESET}}, 27 PA28, 28 GND, 29 VDDCORE, 30 VDDIN, 31 PA30, 32 PA31, 33 EP

## ATSAMDA1G14B-A
designator *  value ATSAMDA1G14B-A  Reference: U
SAM DA1 Microchip SMART ARM-based Flash MCU, 48Mhz, 16K Flash w/ 0.5K RWW, 4K SRAM, TQFP-48; ki_keywords: 32-bit ARM Cortex-M0+ MCU Microcontroller; ki_fp_filters: TQFP*7x7mm*P0.5mm*; Footprint: Package_QFP:TQFP-48_7x7mm_P0.5mm; Datasheet: http://ww1.microchip.com/downloads/en/DeviceDoc/SAM_D21_DA1_Family_Data%20Sheet_DS40001882E.pdf; Description_: SAM DA1 Microchip SMART ARM-based Flash MCU, 48Mhz, 16K Flash w/ 0.5K RWW, 4K SRAM, TQFP-48
pins: 1 PA00, 2 PA01, 3 PA02, 4 PA03, 5 GNDANA, 6 VDDANA, 7 PB08, 8 PB09, 9 PA04, 10 PA05, 11 PA06, 12 PA07, 13 PA08, 14 PA09, 15 PA10, 16 PA11, 17 VDDIO, 18 GND, 19 PB10, 20 PB11, 21 PA12, 22 PA13, 23 PA14, 24 PA15, 25 PA16, 26 PA17, 27 PA18, 28 PA19, 29 PA20, 30 PA21, 31 PA22, 32 PA23, 33 PA24, 34 PA25, 35 GND, 36 VDDIO, 37 PB22, 38 PB23, 39 PA27, 40 ~{{RESET}}, 41 PA28, 42 GND, 43 VDDCORE, 44 VDDIN, 45 PA30, 46 PA31, 47 PB02, 48 PB03

## ATSAMDA1G14B-M
designator *  value ATSAMDA1G14B-M  Reference: U
SAM DA1 Microchip SMART ARM-based Flash MCU, 48Mhz, 16K Flash w/ 0.5K RWW, 4K SRAM, QFN-48; ki_keywords: 32-bit ARM Cortex-M0+ MCU Microcontroller; ki_fp_filters: QFN*7x7mm*P0.5mm*; Footprint: Package_DFN_QFN:QFN-48-1EP_7x7mm_P0.5mm_EP5.15x5.15mm; Datasheet: http://ww1.microchip.com/downloads/en/DeviceDoc/SAM_D21_DA1_Family_Data%20Sheet_DS40001882E.pdf; Description_: SAM DA1 Microchip SMART ARM-based Flash MCU, 48Mhz, 16K Flash w/ 0.5K RWW, 4K SRAM, QFN-48
pins: 1 PA00, 2 PA01, 3 PA02, 4 PA03, 5 GNDANA, 6 VDDANA, 7 PB08, 8 PB09, 9 PA04, 10 PA05, 11 PA06, 12 PA07, 13 PA08, 14 PA09, 15 PA10, 16 PA11, 17 VDDIO, 18 GND, 19 PB10, 20 PB11, 21 PA12, 22 PA13, 23 PA14, 24 PA15, 25 PA16, 26 PA17, 27 PA18, 28 PA19, 29 PA20, 30 PA21, 31 PA22, 32 PA23, 33 PA24, 34 PA25, 35 GND, 36 VDDIO, 37 PB22, 38 PB23, 39 PA27, 40 ~{{RESET}}, 41 PA28, 42 GND, 43 VDDCORE, 44 VDDIN, 45 PA30, 46 PA31, 47 PB02, 48 PB03, 49 EP

## ATSAMDA1G15B-A
designator *  value ATSAMDA1G15B-A  Reference: U
SAM DA1 Microchip SMART ARM-based Flash MCU, 48Mhz, 32K Flash w/ 1K RWW, 4K SRAM, TQFP-48; ki_keywords: 32-bit ARM Cortex-M0+ MCU Microcontroller; ki_fp_filters: TQFP*7x7mm*P0.5mm*; Footprint: Package_QFP:TQFP-48_7x7mm_P0.5mm; Datasheet: http://ww1.microchip.com/downloads/en/DeviceDoc/SAM_D21_DA1_Family_Data%20Sheet_DS40001882E.pdf; Description_: SAM DA1 Microchip SMART ARM-based Flash MCU, 48Mhz, 32K Flash w/ 1K RWW, 4K SRAM, TQFP-48
pins: 1 PA00, 2 PA01, 3 PA02, 4 PA03, 5 GNDANA, 6 VDDANA, 7 PB08, 8 PB09, 9 PA04, 10 PA05, 11 PA06, 12 PA07, 13 PA08, 14 PA09, 15 PA10, 16 PA11, 17 VDDIO, 18 GND, 19 PB10, 20 PB11, 21 PA12, 22 PA13, 23 PA14, 24 PA15, 25 PA16, 26 PA17, 27 PA18, 28 PA19, 29 PA20, 30 PA21, 31 PA22, 32 PA23, 33 PA24, 34 PA25, 35 GND, 36 VDDIO, 37 PB22, 38 PB23, 39 PA27, 40 ~{{RESET}}, 41 PA28, 42 GND, 43 VDDCORE, 44 VDDIN, 45 PA30, 46 PA31, 47 PB02, 48 PB03

## ATSAMDA1G15B-M
designator *  value ATSAMDA1G15B-M  Reference: U
SAM DA1 Microchip SMART ARM-based Flash MCU, 48Mhz, 32K Flash w/ 1K RWW, 4K SRAM, QFN-48; ki_keywords: 32-bit ARM Cortex-M0+ MCU Microcontroller; ki_fp_filters: QFN*7x7mm*P0.5mm*; Footprint: Package_DFN_QFN:QFN-48-1EP_7x7mm_P0.5mm_EP5.15x5.15mm; Datasheet: http://ww1.microchip.com/downloads/en/DeviceDoc/SAM_D21_DA1_Family_Data%20Sheet_DS40001882E.pdf; Description_: SAM DA1 Microchip SMART ARM-based Flash MCU, 48Mhz, 32K Flash w/ 1K RWW, 4K SRAM, QFN-48
pins: 1 PA00, 2 PA01, 3 PA02, 4 PA03, 5 GNDANA, 6 VDDANA, 7 PB08, 8 PB09, 9 PA04, 10 PA05, 11 PA06, 12 PA07, 13 PA08, 14 PA09, 15 PA10, 16 PA11, 17 VDDIO, 18 GND, 19 PB10, 20 PB11, 21 PA12, 22 PA13, 23 PA14, 24 PA15, 25 PA16, 26 PA17, 27 PA18, 28 PA19, 29 PA20, 30 PA21, 31 PA22, 32 PA23, 33 PA24, 34 PA25, 35 GND, 36 VDDIO, 37 PB22, 38 PB23, 39 PA27, 40 ~{{RESET}}, 41 PA28, 42 GND, 43 VDDCORE, 44 VDDIN, 45 PA30, 46 PA31, 47 PB02, 48 PB03, 49 EP

## ATSAMDA1G16B-A
designator *  value ATSAMDA1G16B-A  Reference: U
SAM DA1 Microchip SMART ARM-based Flash MCU, 48Mhz, 64K Flash w/ 2K RWW, 8K SRAM, TQFP-48; ki_keywords: 32-bit ARM Cortex-M0+ MCU Microcontroller; ki_fp_filters: TQFP*7x7mm*P0.5mm*; Footprint: Package_QFP:TQFP-48_7x7mm_P0.5mm; Datasheet: http://ww1.microchip.com/downloads/en/DeviceDoc/SAM_D21_DA1_Family_Data%20Sheet_DS40001882E.pdf; Description_: SAM DA1 Microchip SMART ARM-based Flash MCU, 48Mhz, 64K Flash w/ 2K RWW, 8K SRAM, TQFP-48
pins: 1 PA00, 2 PA01, 3 PA02, 4 PA03, 5 GNDANA, 6 VDDANA, 7 PB08, 8 PB09, 9 PA04, 10 PA05, 11 PA06, 12 PA07, 13 PA08, 14 PA09, 15 PA10, 16 PA11, 17 VDDIO, 18 GND, 19 PB10, 20 PB11, 21 PA12, 22 PA13, 23 PA14, 24 PA15, 25 PA16, 26 PA17, 27 PA18, 28 PA19, 29 PA20, 30 PA21, 31 PA22, 32 PA23, 33 PA24, 34 PA25, 35 GND, 36 VDDIO, 37 PB22, 38 PB23, 39 PA27, 40 ~{{RESET}}, 41 PA28, 42 GND, 43 VDDCORE, 44 VDDIN, 45 PA30, 46 PA31, 47 PB02, 48 PB03

## ATSAMDA1G16B-M
designator *  value ATSAMDA1G16B-M  Reference: U
SAM DA1 Microchip SMART ARM-based Flash MCU, 48Mhz, 64K Flash w/ 2K RWW, 8K SRAM, QFN-48; ki_keywords: 32-bit ARM Cortex-M0+ MCU Microcontroller; ki_fp_filters: QFN*7x7mm*P0.5mm*; Footprint: Package_DFN_QFN:QFN-48-1EP_7x7mm_P0.5mm_EP5.15x5.15mm; Datasheet: http://ww1.microchip.com/downloads/en/DeviceDoc/SAM_D21_DA1_Family_Data%20Sheet_DS40001882E.pdf; Description_: SAM DA1 Microchip SMART ARM-based Flash MCU, 48Mhz, 64K Flash w/ 2K RWW, 8K SRAM, QFN-48
pins: 1 PA00, 2 PA01, 3 PA02, 4 PA03, 5 GNDANA, 6 VDDANA, 7 PB08, 8 PB09, 9 PA04, 10 PA05, 11 PA06, 12 PA07, 13 PA08, 14 PA09, 15 PA10, 16 PA11, 17 VDDIO, 18 GND, 19 PB10, 20 PB11, 21 PA12, 22 PA13, 23 PA14, 24 PA15, 25 PA16, 26 PA17, 27 PA18, 28 PA19, 29 PA20, 30 PA21, 31 PA22, 32 PA23, 33 PA24, 34 PA25, 35 GND, 36 VDDIO, 37 PB22, 38 PB23, 39 PA27, 40 ~{{RESET}}, 41 PA28, 42 GND, 43 VDDCORE, 44 VDDIN, 45 PA30, 46 PA31, 47 PB02, 48 PB03, 49 EP

## ATSAMDA1J14B-A
designator *  value ATSAMDA1J14B-A  Reference: U
SAM DA1 Microchip SMART ARM-based Flash MCU, 48Mhz, 16K Flash w/ 0.5K RWW, 4K SRAM, TQFP-64; ki_keywords: 32-bit ARM Cortex-M0+ MCU Microcontroller; ki_fp_filters: TQFP*10x10mm*P0.5mm*; Footprint: Package_QFP:TQFP-64_10x10mm_P0.5mm; Datasheet: http://ww1.microchip.com/downloads/en/DeviceDoc/SAM_D21_DA1_Family_Data%20Sheet_DS40001882E.pdf; Description_: SAM DA1 Microchip SMART ARM-based Flash MCU, 48Mhz, 16K Flash w/ 0.5K RWW, 4K SRAM, TQFP-64
pins: 1 PA00, 2 PA01, 3 PA02, 4 PA03, 5 PB04, 6 PB05, 7 GNDANA, 8 VDDANA, 9 PB06, 10 PB07, 11 PB08, 12 PB09, 13 PA04, 14 PA05, 15 PA06, 16 PA07, 17 PA08, 18 PA09, 19 PA10, 20 PA11, 21 VDDIO, 22 GND, 23 PB10, 24 PB11, 25 PB12, 26 PB13, 27 PB14, 28 PB15, 29 PA12, 30 PA13, 31 PA14, 32 PA15, 33 GND, 34 VDDIO, 35 PA16, 36 PA17, 37 PA18, 38 PA19, 39 PB16, 40 PB17, 41 PA20, 42 PA21, 43 PA22, 44 PA23, 45 PA24, 46 PA25, 47 GND, 48 VDDIO, 49 PB22, 50 PB23, 51 PA27, 52 ~{{RESET}}, 53 PA28, 54 GND, 55 VDDCORE, 56 VDDIN, 57 PA30, 58 PA31, 59 PB30, 60 PB31, 61 PB00, 62 PB01, 63 PB02, 64 PB03

## ATSAMDA1J15B-A
designator *  value ATSAMDA1J15B-A  Reference: U
SAM DA1 Microchip SMART ARM-based Flash MCU, 48Mhz, 32K Flash w/ 1K RWW, 4K SRAM, TQFP-64; ki_keywords: 32-bit ARM Cortex-M0+ MCU Microcontroller; ki_fp_filters: TQFP*10x10mm*P0.5mm*; Footprint: Package_QFP:TQFP-64_10x10mm_P0.5mm; Datasheet: http://ww1.microchip.com/downloads/en/DeviceDoc/SAM_D21_DA1_Family_Data%20Sheet_DS40001882E.pdf; Description_: SAM DA1 Microchip SMART ARM-based Flash MCU, 48Mhz, 32K Flash w/ 1K RWW, 4K SRAM, TQFP-64
pins: 1 PA00, 2 PA01, 3 PA02, 4 PA03, 5 PB04, 6 PB05, 7 GNDANA, 8 VDDANA, 9 PB06, 10 PB07, 11 PB08, 12 PB09, 13 PA04, 14 PA05, 15 PA06, 16 PA07, 17 PA08, 18 PA09, 19 PA10, 20 PA11, 21 VDDIO, 22 GND, 23 PB10, 24 PB11, 25 PB12, 26 PB13, 27 PB14, 28 PB15, 29 PA12, 30 PA13, 31 PA14, 32 PA15, 33 GND, 34 VDDIO, 35 PA16, 36 PA17, 37 PA18, 38 PA19, 39 PB16, 40 PB17, 41 PA20, 42 PA21, 43 PA22, 44 PA23, 45 PA24, 46 PA25, 47 GND, 48 VDDIO, 49 PB22, 50 PB23, 51 PA27, 52 ~{{RESET}}, 53 PA28, 54 GND, 55 VDDCORE, 56 VDDIN, 57 PA30, 58 PA31, 59 PB30, 60 PB31, 61 PB00, 62 PB01, 63 PB02, 64 PB03

## ATSAMDA1J16B-A
designator *  value ATSAMDA1J16B-A  Reference: U
SAM DA1 Microchip SMART ARM-based Flash MCU, 48Mhz, 64K Flash w/ 2K RWW, 8K SRAM, TQFP-64; ki_keywords: 32-bit ARM Cortex-M0+ MCU Microcontroller; ki_fp_filters: TQFP*10x10mm*P0.5mm*; Footprint: Package_QFP:TQFP-64_10x10mm_P0.5mm; Datasheet: http://ww1.microchip.com/downloads/en/DeviceDoc/SAM_D21_DA1_Family_Data%20Sheet_DS40001882E.pdf; Description_: SAM DA1 Microchip SMART ARM-based Flash MCU, 48Mhz, 64K Flash w/ 2K RWW, 8K SRAM, TQFP-64
pins: 1 PA00, 2 PA01, 3 PA02, 4 PA03, 5 PB04, 6 PB05, 7 GNDANA, 8 VDDANA, 9 PB06, 10 PB07, 11 PB08, 12 PB09, 13 PA04, 14 PA05, 15 PA06, 16 PA07, 17 PA08, 18 PA09, 19 PA10, 20 PA11, 21 VDDIO, 22 GND, 23 PB10, 24 PB11, 25 PB12, 26 PB13, 27 PB14, 28 PB15, 29 PA12, 30 PA13, 31 PA14, 32 PA15, 33 GND, 34 VDDIO, 35 PA16, 36 PA17, 37 PA18, 38 PA19, 39 PB16, 40 PB17, 41 PA20, 42 PA21, 43 PA22, 44 PA23, 45 PA24, 46 PA25, 47 GND, 48 VDDIO, 49 PB22, 50 PB23, 51 PA27, 52 ~{{RESET}}, 53 PA28, 54 GND, 55 VDDCORE, 56 VDDIN, 57 PA30, 58 PA31, 59 PB30, 60 PB31, 61 PB00, 62 PB01, 63 PB02, 64 PB03